# Altium footprint library 电容.PcbLib: 174 footprints (part 10 of 11)
Each footprint in its own frame and in the unit in brackets; x right, y up, seen from the top. Pads: shape width x height; smd on the part's side, far side on the other; paste and mask are expansions set on the pad; w line width, h text height; cw(c..) or ccw(c..) is an arc to the next point about the centre after c.
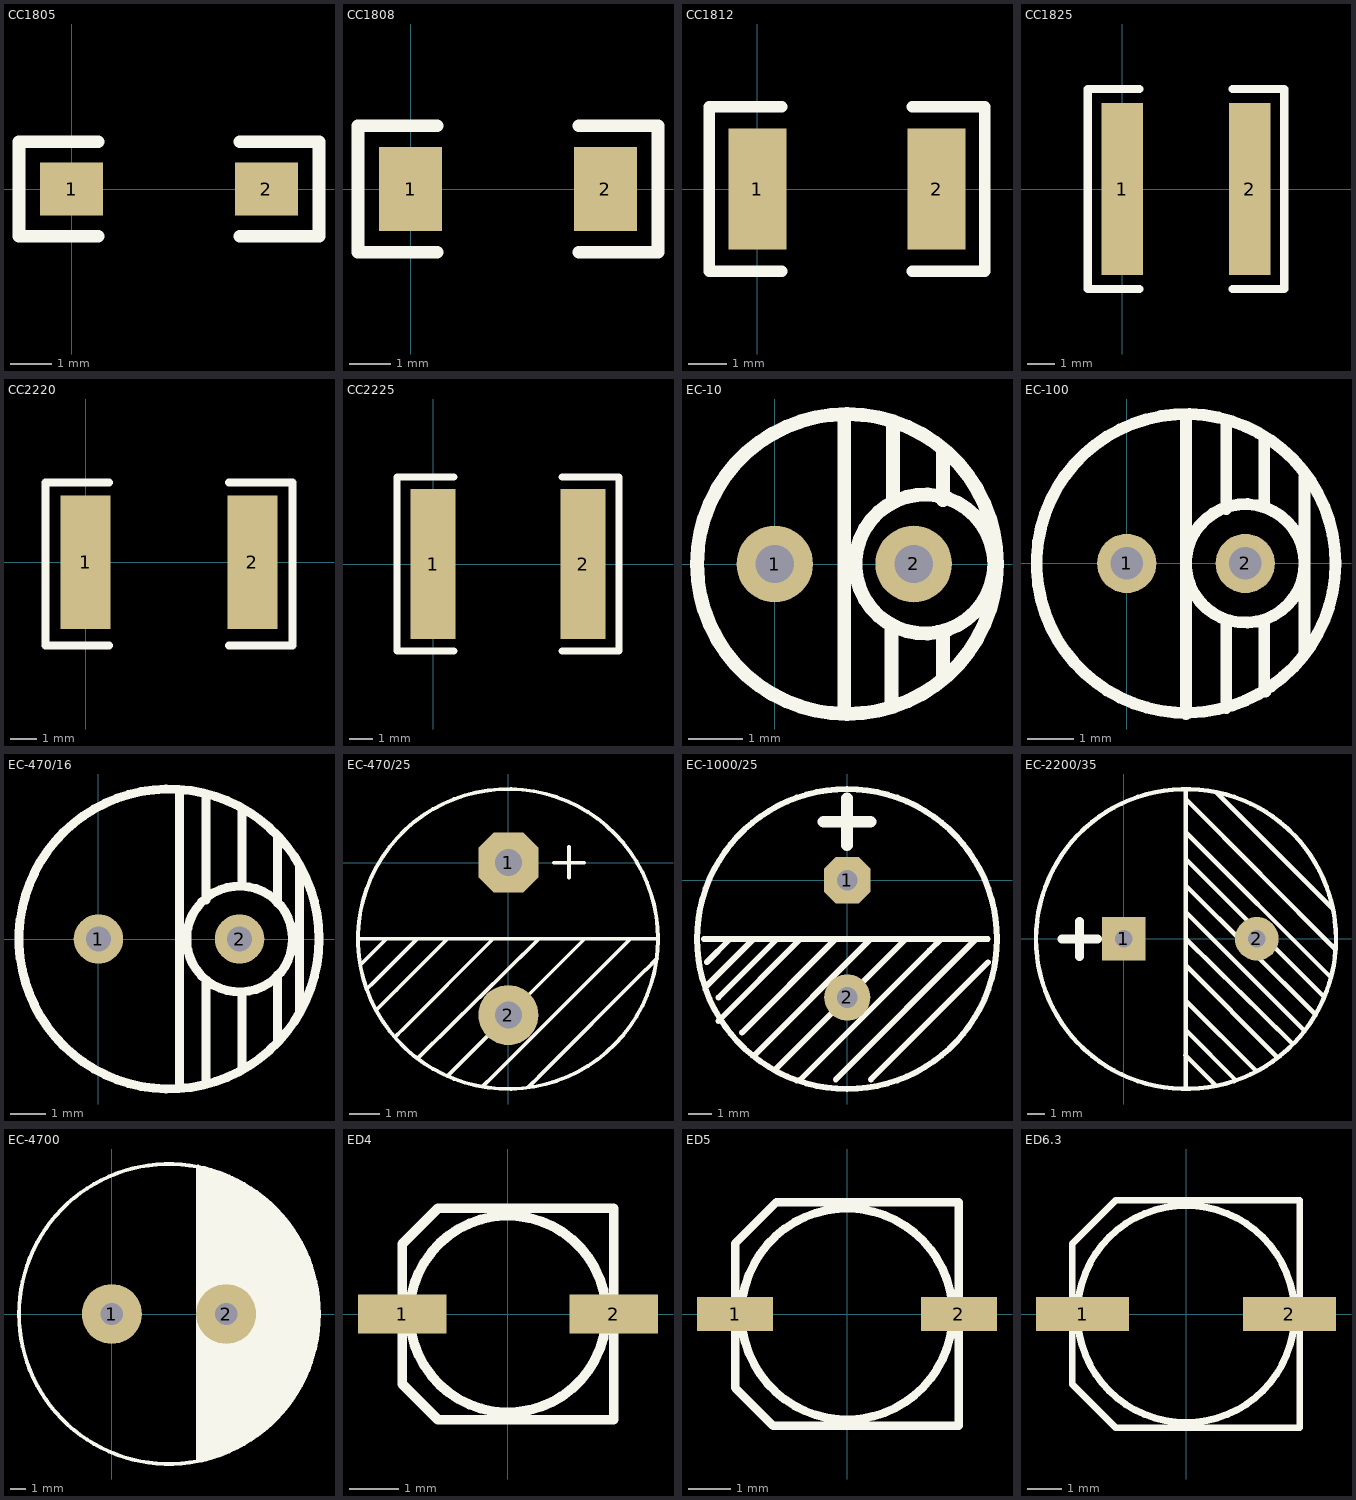
[diagram p9: the footprints below, top view; thin cyan lines are the x and y axes]

## CC1805 [mil]
pads (2):
  rect 60x50 smd: 1(0,0) 2(185,0)
Top Overlay:
  lines w12: 25,-45 -50,-45 -50,45 25,45 ; 160,-45 235,-45 235,45 160,45

## CC1808 [mil]
pads (2):
  rect 60x80 smd: 1(0,0) 2(185,0)
Top Overlay:
  lines w12: 25,-60 -50,-60 -50,60 25,60 ; 160,-60 235,-60 235,60 160,60

## CC1812 [mil]
pads (2):
  rect 60x125 smd: 1(0,0) 2(185,0)
Top Overlay:
  lines w12: 25,-85 -50,-85 -50,85 25,85 ; 160,-85 235,-85 235,85 160,85
3D body "CAPC4532(1812).STEP": height 39.37, standoff 0, extent 1.41,-63 178.58,62.99

## CC1825 [mil]
pads (2):
  rect 60x250 smd: 1(0,0) 2(185,0)
Top Overlay:
  lines w12: 25,-145 -50,-145 -50,145 25,145 ; 160,-145 235,-145 235,145 160,145
3D body "CAPC4564(1825).STEP": height 59.06, standoff 0, extent 11.41,-125.99 188.58,125.98

## CC2220 [mm]
pads (2):
  rect 1.905x5.08 smd: 1(0,0) 2(6.35,0)
Top Overlay:
  lines w0.305: 0.889,-3.175 -1.524,-3.175 -1.524,3.048 0.889,3.048 ; 5.461,-3.175 7.874,-3.175 7.874,3.048 5.461,3.048
3D body "CAPC5750(2220).STEP": height 2.3, standoff 0, extent 0.325,-2.5 6.025,2.5

## CC2225 [mm]
pads (2):
  rect 1.905x6.35 smd: 1(0,0) 2(6.35,0)
Top Overlay:
  lines w0.305: 0.889,-3.683 -1.524,-3.683 -1.524,3.683 0.889,3.683 ; 5.461,-3.683 7.874,-3.683 7.874,3.683 5.461,3.683
3D body "CAPC5764(2225).STEP": height 1.3, standoff 0, extent 0.325,-3.175 6.025,3.175

## EC-10 [mm]
pads (2):
  round 1.4 hole 0.7: 1(0,0) 2(2.54,0)
Top Overlay:
  circle w0.254: c1.321,0 r2.743
  circle w0.254: c2.743,0 r1.27
  lines w0.254: 1.27,-2.7 1.27,2.667 ; 2.134,-2.54 2.134,-1.219 ; 2.159,1.194 2.159,2.565 ; 3.073,-2.032 3.073,-1.33 ; 3.073,1.168 3.073,2.032
3D body "SW3dPS-Cap electro 5x11x2mm.STEP": height 11.53, standoff -3.27, extent -1.23,-2.515 3.821,2.536

## EC-100 [mm]
pads (2):
  round 1.27 hole 0.7: 1(0,0) 2(2.54,0)
Top Overlay:
  circle w0.254: c1.27,0 r3.2
  circle w0.254: c2.54,0 r1.27
  lines w0.254: 1.27,-3.226 1.27,3.175 ; 2.134,-3.099 2.134,-1.245 ; 2.134,1.168 2.134,3.023 ; 2.946,-1.245 2.946,-2.718 2.972,-2.743 ; 2.946,1.219 2.946,2.667 ; 3.81,-1.88 3.81,1.854
3D body "User Library-Cap electro 6_3x12_5x2_5mm.STEP": height 13.03, standoff -3.01, extent -1.981,-3.099 4.37,3.252

## EC-470/16 [mm]
pads (2):
  round 1.4 hole 0.7: 1(0,0) 2(4,0)
Top Overlay:
  circle w0.254: c4,0 r1.5
  circle w0.254: c2,0 r4.25
  lines w0.254: 2.3,-4.2 2.3,4.2 ; 3.048,-4.1 3.048,-1.2 ; 3.048,1.1 3.048,4.1 ; 4.064,-3.7 4.064,-1.524 ; 4.064,1.524 4.064,3.7 ; 5.08,-2.9 5.08,-1.016 ; 5.08,1.016 5.08,2.9 ; 5.7,-2.032 5.7,2.032
3D body "User Library-GXE10VB221MX12LL.STEP": height 12, standoff -19, extent -2.269,-4.191 6.231,4.309

## EC-470/25 [mm]
pads (2):
  oct 2x2 hole 0.9: 1(0,0)
  round 2 hole 0.9: 2(0,-5.08)
Top Overlay:
  circle w0.127: c-0.013,-2.546 r5
  lines w0.127: -5,-2.546 4.886,-2.537 ; -4.928,-3.404 -4.063,-2.539 -4.059,-2.539 ; -4.724,-4.216 -4.571,-4.063 -4.567,-4.063 -3.05,-2.546 ; -4.394,-4.902 -3.738,-4.246 -3.734,-4.246 ; -4.059,-4.571 -2.027,-2.539 ; -3.759,-5.791 -3.555,-5.587 -3.551,-5.587 -0.503,-2.539 ; -3,-6.5 1.021,-2.539 ; -2.027,-7.111 2.545,-2.539 ; -0.864,-7.468 -0.507,-7.111 -0.503,-7.111 3.561,-3.047 4.069,-2.539 ; 0.686,-7.468 1.018,-7.135 1.018,-7.127 4.574,-3.571 4.583,-3.571 4.953,-3.2 ; 1.511,-0.006 2.527,-0.006 ; 2.019,-0.505 2.019,0.519
3D body "User Library-Cap electro 10x16x5_0mm.STEP": height 16.53, standoff -3.74, extent -5.051,-7.62 5,2.431

## EC-1000/25 [mm]
pads (2):
  oct 2x2 hole 0.9: 1(0,0)
  round 2 hole 0.9: 2(0,-5.08)
Top Overlay:
  circle w0.254: c-0.013,-2.546 r6.5
  lines w0.254: -6.213,-2.546 6.088,-2.546 ; -6.091,-4.571 -4.059,-2.539 ; -6.091,-3.555 -5.082,-2.546 -5.075,-2.546 ; -5.583,-6.095 -2.027,-2.539 ; -5.583,-5.079 -3.05,-2.546 -3.043,-2.546 ; -4.567,-6.603 -0.503,-2.539 ; -4.059,-7.619 1.021,-2.539 ; -3.043,-8.127 2.545,-2.539 ; -2.027,-8.635 3.561,-3.047 4.069,-2.539 ; -0.503,-8.635 5.593,-2.539 ; 1.021,-8.635 6.101,-3.555
  lines w0.508: -1.029,2.534 1.003,2.534 ; -0.013,1.518 -0.013,3.55
3D body "User Library-Capacitor, Al El, Thru Mt, 2200uF, 25V - CDE #SEK222M025ST.STEP": height 25.4, standoff -28.75, extent -6.647,-9.169 6.553,4.031

## EC-2200/35 [mm]
pads (2):
  rect 2.5x2.5 hole 1: 1(0,0)
  round 2.5 hole 1: 2(7.62,0)
Top Overlay:
  circle w0.254: c3.562,-0.013 r8.6
  lines w0.254: 3.531,-6.68 5.25,-8.4 ; 3.555,-8.58 3.555,8.55 ; 3.555,-5.583 3.555,-5.075 ; 3.555,-3.551 7.6,-7.6 ; 3.555,-1.519 8.8,-6.8 ; 3.555,0.005 9.65,-6 ; 3.555,2.037 3.555,1.529 10.36,-5.28 ; 3.555,3.053 11,-4.36 ; 3.555,4.577 11.5,-3.35 ; 3.555,6.101 11.87,-2.22 ; 3.556,8.001 12.152,-0.635 ; 3.581,-5.258 6.4,-8.1 ; 5.3,8.4 11.98,1.721
  lines w0.508: -3.55,-0.013 -1.518,-0.013 ; -2.534,-1.029 -2.534,1.003
3D body "User Library-HE Series 18X15.STEP": height 16, standoff -1.5, extent -5.241,-8.966 12.759,9.034

## EC-4700 [mm]
pads (2):
  round 4 hole 1.5: 1(0,0) 2(7.62,0)
Top Overlay:
  circle w0.254: c3.81,0 r10
  lines w0.254: 5.74,-9.703 5.74,9.855 ; 5.74,9.804 5.994,9.55 5.994,-9.779 ; 6.198,-9.627 6.198,9.728 ; 6.401,-9.601 6.401,9.652 ; 6.629,-9.525 6.629,9.601 ; 6.858,-9.5 6.858,9.5 ; 7.087,-9.423 7.087,9.449 ; 7.315,-9.322 7.315,9.347 ; 7.544,-9.195 7.544,9.271 ; 7.798,-9.144 7.798,9.144 ; 8.026,-9.042 8.026,9.068 ; 8.255,-8.941 8.255,8.89 ; 8.484,-8.763 8.484,8.788 ; 8.712,-8.636 8.712,8.687 ; 8.941,-8.458 8.941,8.534 ; 9.195,-8.407 9.195,8.331 ; 9.423,-8.28 9.423,8.255 ; 9.652,-8.103 9.652,8.128 ; 9.881,-7.925 9.881,7.95 ; 10.135,-7.722 10.135,7.747 ; 10.389,-7.544 10.389,7.468 ; 10.617,-7.29 10.617,7.264 ; 10.871,-7.087 10.871,6.985 ; 11.125,-6.756 11.125,6.807 ; 11.379,-6.528 11.379,6.452 ; 11.608,-6.198 11.608,6.248 ; 11.811,5.74 11.836,5.715 11.836,-5.918 ; 12.065,-5.563 12.065,5.613 ; 12.319,-5.232 12.319,5.207 ; 12.573,-4.724 12.573,4.801 ; 12.827,-4.293 12.827,4.242 ; 13.081,-3.658 13.081,3.708 ; 13.284,-3.048 13.284,3.023 ; 13.538,-2.337 13.538,2.21

## ED4 [mm]
height 5.5
pads (2):
  rect 1.8x0.8 smd: 1(-2.15,0) 2(2.15,0)
Top Overlay:
  circle w0.2: c0,0 r2
  lines w0.2: -1.433,-2.139 -2.15,-1.422 ; -1.433,2.139 -2.15,1.422 ; -2.15,-1.422 -2.15,1.422 ; -2.15,-1.422 -1.422,-2.15 2.15,-2.15 2.15,2.15 -1.422,2.15 -2.15,1.422
3D body "SL-B.step": height 5.2, standoff 0, extent -2.286,-2.159 2.314,2.141

## ED5 [mm]
height 5.5
pads (2):
  rect 1.8x0.8 smd: 1(-2.65,0) 2(2.65,0)
Top Overlay:
  circle w0.2: c0,0 r2.5
  lines w0.2: -2.65,-1.744 -2.65,1.668 -1.668,2.65 2.65,2.65 2.65,-2.65 -1.744,-2.65 -2.65,-1.744
3D body "SL-D.step": height 5.2, standoff 0, extent -2.8,-2.667 2.8,2.633

## ED6.3 [mm]
height 5.5
pads (2):
  rect 2.7x1 smd: 1(-3,0) 2(3,0)
Top Overlay:
  circle w0.2: c0,0 r3.15
  lines w0.2: -3.3,2.032 -3.3,-2.032 -2.032,-3.3 3.3,-3.3 3.3,3.3 -2.032,3.3 -3.287,2.045
3D body "SL-E.step": height 5.2, standoff 0, extent -3.5,-3.302 3.5,3.298